# Altium integrated library ISSI SRAM Asynchronous SRAM Lower Power.IntLib: 204 symbols (part 1 of 9)
Pins are listed as number, name and electrical type; pins without a type are passive.

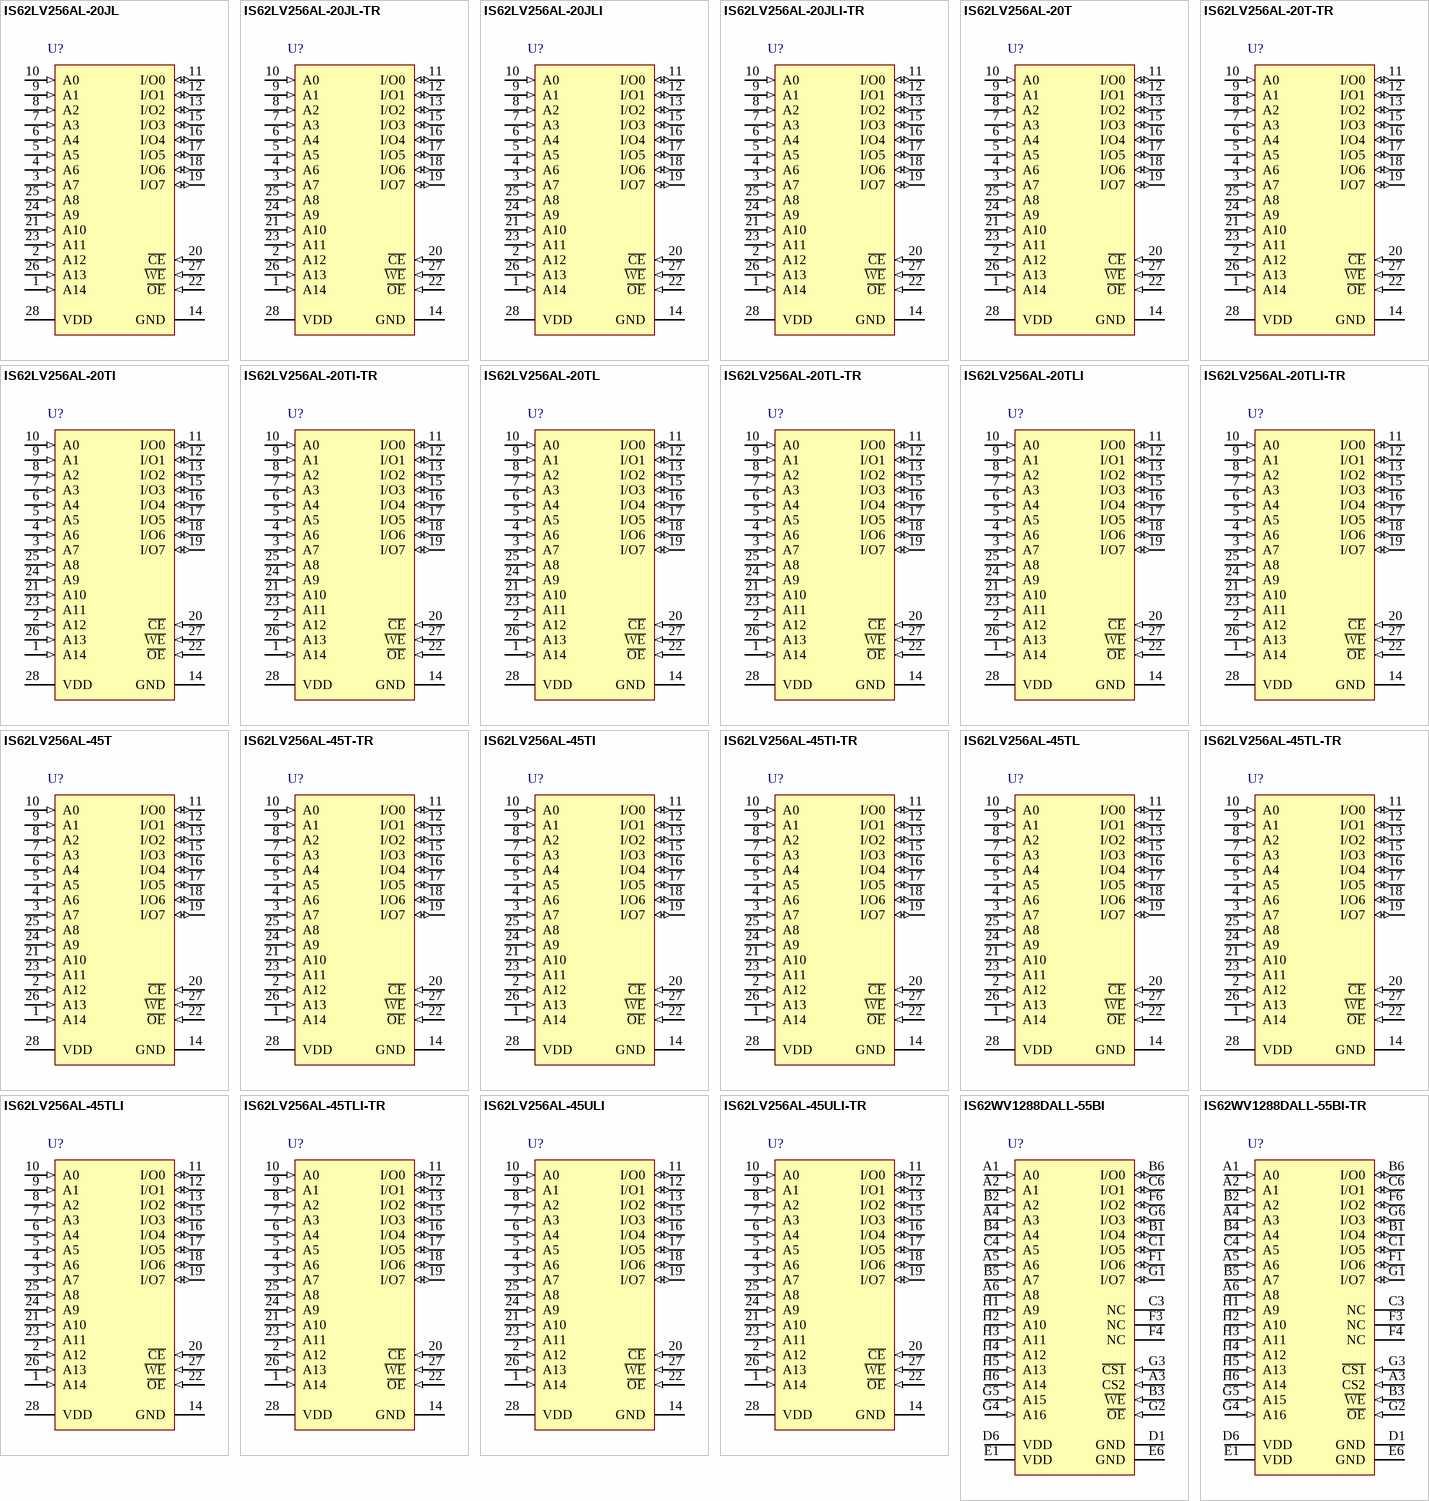
[diagram p0: symbols IS62LV256AL-20JL to IS62WV1288DALL-55BI-TR]

## IS62LV256AL-20JL
designator U?
256 K Low Voltage CMOS SRAM, 32 K x 8, 0 to 70 degC, 28-Pin SOJ (SOJ-28_A), Pb-Free; Manufacturer: Integrated Silicon Solution Inc (ISSI); PartNumber: IS62LV256AL-20JL; Density: 256K; Organization: 32K x 8; Packing: Tray / Tube; Speed (ns): 20; DatasheetVersion: Rev. C; PackageVersion: Rev. C, 07/2006; PackageReference: SOJ-28; PackageDescription: 28-Pin 300 mil SOJ, Body 18.12 x 7.585 mm, Pitch 1.27 mm; RoHS: Pb-Free; Mounting Technology: Surface Mount; ComponentLink1Description: Manufacturer URL; ComponentLink1URL: http://www.issi.com/US/index.shtml; ComponentLink2Description: Datasheet; ComponentLink2URL: http://www.issi.com/WW/pdf/62-65LV256AL.pdf; ComponentLink3Description: Package Specification; ComponentLink3URL: http://www.issi.com/WW/pdf/61C256AL.pdf
footprint ISSI-SOJ-28_A_N (SOJ, 28-Leads, Body 18.54x7.75mm, Pitch 1.27mm, IPC Medium Density)
pins: 1 A14 (in) "Address Input", 2 A12 (in) "Address Input", 3 A7 (in) "Address Input", 4 A6 (in) "Address Input", 5 A5 (in) "Address Input", 6 A4 (in) "Address Input", 7 A3 (in) "Address Input", 8 A2 (in) "Address Input", 9 A1 (in) "Address Input", 10 A0 (in) "Address Input", 11 I/O0 (io) "Input/Output", 12 I/O1 (io) "Input/Output", 13 I/O2 (io) "Input/Output", 14 GND (power) "Ground", 15 I/O3 (io) "Input/Output", 16 I/O4 (io) "Input/Output", 17 I/O5 (io) "Input/Output", 18 I/O6 (io) "Input/Output", 19 I/O7 (io) "Input/Output", 20 ~{CE} (in) "Chip Enable Input", 21 A10 (in) "Address Input", 22 ~{OE} (in) "Output Enable Input", 23 A11 (in) "Address Input", 24 A9 (in) "Address Input", 25 A8 (in) "Address Input", 26 A13 (in) "Address Input", 27 ~{WE} (in) "Write Enable Input", 28 VDD (power) "Power"

## IS62LV256AL-20JL-TR
designator U?
256 K Low Voltage CMOS SRAM, 32 K x 8, 0 to 70 degC, 28-Pin SOJ (SOJ-28_A), Pb-Free; Manufacturer: Integrated Silicon Solution Inc (ISSI); PartNumber: IS62LV256AL-20JL-TR; Density: 256K; Organization: 32K x 8; Packing: Tape & Reel; Speed (ns): 20; DatasheetVersion: Rev. C; PackageVersion: Rev. C, 07/2006; PackageReference: SOJ-28; PackageDescription: 28-Pin 300 mil SOJ, Body 18.12 x 7.585 mm, Pitch 1.27 mm; RoHS: Pb-Free; Mounting Technology: Surface Mount; ComponentLink1Description: Manufacturer URL; ComponentLink1URL: http://www.issi.com/US/index.shtml; ComponentLink2Description: Datasheet; ComponentLink2URL: http://www.issi.com/WW/pdf/62-65LV256AL.pdf; ComponentLink3Description: Package Specification; ComponentLink3URL: http://www.issi.com/WW/pdf/61C256AL.pdf
footprint ISSI-SOJ-28_A_N (SOJ, 28-Leads, Body 18.54x7.75mm, Pitch 1.27mm, IPC Medium Density)
pins: 1 A14 (in) "Address Input", 2 A12 (in) "Address Input", 3 A7 (in) "Address Input", 4 A6 (in) "Address Input", 5 A5 (in) "Address Input", 6 A4 (in) "Address Input", 7 A3 (in) "Address Input", 8 A2 (in) "Address Input", 9 A1 (in) "Address Input", 10 A0 (in) "Address Input", 11 I/O0 (io) "Input/Output", 12 I/O1 (io) "Input/Output", 13 I/O2 (io) "Input/Output", 14 GND (power) "Ground", 15 I/O3 (io) "Input/Output", 16 I/O4 (io) "Input/Output", 17 I/O5 (io) "Input/Output", 18 I/O6 (io) "Input/Output", 19 I/O7 (io) "Input/Output", 20 ~{CE} (in) "Chip Enable Input", 21 A10 (in) "Address Input", 22 ~{OE} (in) "Output Enable Input", 23 A11 (in) "Address Input", 24 A9 (in) "Address Input", 25 A8 (in) "Address Input", 26 A13 (in) "Address Input", 27 ~{WE} (in) "Write Enable Input", 28 VDD (power) "Power"

## IS62LV256AL-20JLI
designator U?
256 K Low Voltage CMOS SRAM, 32 K x 8, -40 to 85 degC, 28-Pin SOJ (SOJ-28_A), Pb-Free; Manufacturer: Integrated Silicon Solution Inc (ISSI); PartNumber: IS62LV256AL-20JLI; Density: 256K; Organization: 32K x 8; Packing: Tray / Tube; Speed (ns): 20; DatasheetVersion: Rev. C; PackageVersion: Rev. C, 07/2006; PackageReference: SOJ-28; PackageDescription: 28-Pin 300 mil SOJ, Body 18.12 x 7.585 mm, Pitch 1.27 mm; Supplier 1: Digi-Key; Supplier Part Number 1: IS62LV256AL-20JLI-ND; Supplier 2: Mouser; Supplier Part Number 2: 870-62LV256AL-20JLI; RoHS: Pb-Free; Mounting Technology: Surface Mount; ComponentLink1Description: Manufacturer URL; ComponentLink1URL: http://www.issi.com/US/index.shtml; ComponentLink2Description: Datasheet; ComponentLink2URL: http://www.issi.com/WW/pdf/62-65LV256AL.pdf; ComponentLink3Description: Package Specification; ComponentLink3URL: http://www.issi.com/WW/pdf/61C256AL.pdf
footprint ISSI-SOJ-28_A_N (SOJ, 28-Leads, Body 18.54x7.75mm, Pitch 1.27mm, IPC Medium Density)
pins: 1 A14 (in) "Address Input", 2 A12 (in) "Address Input", 3 A7 (in) "Address Input", 4 A6 (in) "Address Input", 5 A5 (in) "Address Input", 6 A4 (in) "Address Input", 7 A3 (in) "Address Input", 8 A2 (in) "Address Input", 9 A1 (in) "Address Input", 10 A0 (in) "Address Input", 11 I/O0 (io) "Input/Output", 12 I/O1 (io) "Input/Output", 13 I/O2 (io) "Input/Output", 14 GND (power) "Ground", 15 I/O3 (io) "Input/Output", 16 I/O4 (io) "Input/Output", 17 I/O5 (io) "Input/Output", 18 I/O6 (io) "Input/Output", 19 I/O7 (io) "Input/Output", 20 ~{CE} (in) "Chip Enable Input", 21 A10 (in) "Address Input", 22 ~{OE} (in) "Output Enable Input", 23 A11 (in) "Address Input", 24 A9 (in) "Address Input", 25 A8 (in) "Address Input", 26 A13 (in) "Address Input", 27 ~{WE} (in) "Write Enable Input", 28 VDD (power) "Power"

## IS62LV256AL-20JLI-TR
designator U?
256 K Low Voltage CMOS SRAM, 32 K x 8, -40 to 85 degC, 28-Pin SOJ (SOJ-28_A), Pb-Free; Manufacturer: Integrated Silicon Solution Inc (ISSI); PartNumber: IS62LV256AL-20JLI-TR; Density: 256K; Organization: 32K x 8; Packing: Tape & Reel; Speed (ns): 20; DatasheetVersion: Rev. C; PackageVersion: Rev. C, 07/2006; PackageReference: SOJ-28; PackageDescription: 28-Pin 300 mil SOJ, Body 18.12 x 7.585 mm, Pitch 1.27 mm; Supplier 1: Digi-Key; Supplier Part Number 1: IS62LV256AL-20JLI-TR-ND; Supplier 2: Mouser; Supplier Part Number 2: 870-62LV256AL-20JLIT; RoHS: Pb-Free; Mounting Technology: Surface Mount; ComponentLink1Description: Manufacturer URL; ComponentLink1URL: http://www.issi.com/US/index.shtml; ComponentLink2Description: Datasheet; ComponentLink2URL: http://www.issi.com/WW/pdf/62-65LV256AL.pdf; ComponentLink3Description: Package Specification; ComponentLink3URL: http://www.issi.com/WW/pdf/61C256AL.pdf
footprint ISSI-SOJ-28_A_N (SOJ, 28-Leads, Body 18.54x7.75mm, Pitch 1.27mm, IPC Medium Density)
pins: 1 A14 (in) "Address Input", 2 A12 (in) "Address Input", 3 A7 (in) "Address Input", 4 A6 (in) "Address Input", 5 A5 (in) "Address Input", 6 A4 (in) "Address Input", 7 A3 (in) "Address Input", 8 A2 (in) "Address Input", 9 A1 (in) "Address Input", 10 A0 (in) "Address Input", 11 I/O0 (io) "Input/Output", 12 I/O1 (io) "Input/Output", 13 I/O2 (io) "Input/Output", 14 GND (power) "Ground", 15 I/O3 (io) "Input/Output", 16 I/O4 (io) "Input/Output", 17 I/O5 (io) "Input/Output", 18 I/O6 (io) "Input/Output", 19 I/O7 (io) "Input/Output", 20 ~{CE} (in) "Chip Enable Input", 21 A10 (in) "Address Input", 22 ~{OE} (in) "Output Enable Input", 23 A11 (in) "Address Input", 24 A9 (in) "Address Input", 25 A8 (in) "Address Input", 26 A13 (in) "Address Input", 27 ~{WE} (in) "Write Enable Input", 28 VDD (power) "Power"

## IS62LV256AL-20T
designator U?
256 K Low Voltage CMOS SRAM, 32 K x 8, 0 to 70 degC, 28-Pin SOP (TSOP-1-28); Manufacturer: Integrated Silicon Solution Inc (ISSI); PartNumber: IS62LV256AL-20T; Density: 256K; Organization: 32K x 8; Packing: Tray / Tube; Speed (ns): 20; DatasheetVersion: Rev. C; PackageVersion: Rev. F, 09/2009; PackageReference: TSOP-1-28; PackageDescription: 28-Pin 8 x 13.4 mm TSOP-1, Pitch 0.55 mm; Mounting Technology: Surface Mount; Code_JEDEC: MO- 183; ComponentLink1Description: Manufacturer URL; ComponentLink1URL: http://www.issi.com/US/index.shtml; ComponentLink2Description: Datasheet; ComponentLink2URL: http://www.issi.com/WW/pdf/62-65LV256AL.pdf; ComponentLink3Description: Package Specification; ComponentLink3URL: http://www.issi.com/WW/pdf/62-65C256AL.pdf
footprint ISSI-TSOP-1-28-8000X13400DE_N (SOP, 28-Leads, Body 11.9x8.1mm, Pitch 0.55mm, IPC Medium Density)
pins: 1 A14 (in) "Address Input", 2 A12 (in) "Address Input", 3 A7 (in) "Address Input", 4 A6 (in) "Address Input", 5 A5 (in) "Address Input", 6 A4 (in) "Address Input", 7 A3 (in) "Address Input", 8 A2 (in) "Address Input", 9 A1 (in) "Address Input", 10 A0 (in) "Address Input", 11 I/O0 (io) "Input/Output", 12 I/O1 (io) "Input/Output", 13 I/O2 (io) "Input/Output", 14 GND (power) "Ground", 15 I/O3 (io) "Input/Output", 16 I/O4 (io) "Input/Output", 17 I/O5 (io) "Input/Output", 18 I/O6 (io) "Input/Output", 19 I/O7 (io) "Input/Output", 20 ~{CE} (in) "Chip Select Input", 21 A10 (in) "Address Input", 22 ~{OE} (in) "Output Enable Input", 23 A11 (in) "Address Input", 24 A9 (in) "Address Input", 25 A8 (in) "Address Input", 26 A13 (in) "Address Input", 27 ~{WE} (in) "Write Enable Input", 28 VDD (power) "Power"

## IS62LV256AL-20T-TR
designator U?
256 K Low Voltage CMOS SRAM, 32 K x 8, 0 to 70 degC, 28-Pin SOP (TSOP-1-28); Manufacturer: Integrated Silicon Solution Inc (ISSI); PartNumber: IS62LV256AL-20T-TR; Density: 256K; Organization: 32K x 8; Packing: Tape & Reel; Speed (ns): 20; DatasheetVersion: Rev. C; PackageVersion: Rev. F, 09/2009; PackageReference: TSOP-1-28; PackageDescription: 28-Pin 8 x 13.4 mm TSOP-1, Pitch 0.55 mm; Mounting Technology: Surface Mount; Code_JEDEC: MO- 183; ComponentLink1Description: Manufacturer URL; ComponentLink1URL: http://www.issi.com/US/index.shtml; ComponentLink2Description: Datasheet; ComponentLink2URL: http://www.issi.com/WW/pdf/62-65LV256AL.pdf; ComponentLink3Description: Package Specification; ComponentLink3URL: http://www.issi.com/WW/pdf/62-65C256AL.pdf
footprint ISSI-TSOP-1-28-8000X13400DE_N (SOP, 28-Leads, Body 11.9x8.1mm, Pitch 0.55mm, IPC Medium Density)
pins: 1 A14 (in) "Address Input", 2 A12 (in) "Address Input", 3 A7 (in) "Address Input", 4 A6 (in) "Address Input", 5 A5 (in) "Address Input", 6 A4 (in) "Address Input", 7 A3 (in) "Address Input", 8 A2 (in) "Address Input", 9 A1 (in) "Address Input", 10 A0 (in) "Address Input", 11 I/O0 (io) "Input/Output", 12 I/O1 (io) "Input/Output", 13 I/O2 (io) "Input/Output", 14 GND (power) "Ground", 15 I/O3 (io) "Input/Output", 16 I/O4 (io) "Input/Output", 17 I/O5 (io) "Input/Output", 18 I/O6 (io) "Input/Output", 19 I/O7 (io) "Input/Output", 20 ~{CE} (in) "Chip Select Input", 21 A10 (in) "Address Input", 22 ~{OE} (in) "Output Enable Input", 23 A11 (in) "Address Input", 24 A9 (in) "Address Input", 25 A8 (in) "Address Input", 26 A13 (in) "Address Input", 27 ~{WE} (in) "Write Enable Input", 28 VDD (power) "Power"

## IS62LV256AL-20TI
designator U?
256 K Low Voltage CMOS SRAM, 32 K x 8, -40 to 85 degC, 28-Pin SOP (TSOP-1-28); Manufacturer: Integrated Silicon Solution Inc (ISSI); PartNumber: IS62LV256AL-20TI; Density: 256K; Organization: 32K x 8; Packing: Tray / Tube; Speed (ns): 20; DatasheetVersion: Rev. C; PackageVersion: Rev. F, 09/2009; PackageReference: TSOP-1-28; PackageDescription: 28-Pin 8 x 13.4 mm TSOP-1, Pitch 0.55 mm; Mounting Technology: Surface Mount; Code_JEDEC: MO- 183; ComponentLink1Description: Manufacturer URL; ComponentLink1URL: http://www.issi.com/US/index.shtml; ComponentLink2Description: Datasheet; ComponentLink2URL: http://www.issi.com/WW/pdf/62-65LV256AL.pdf; ComponentLink3Description: Package Specification; ComponentLink3URL: http://www.issi.com/WW/pdf/62-65C256AL.pdf
footprint ISSI-TSOP-1-28-8000X13400DE_N (SOP, 28-Leads, Body 11.9x8.1mm, Pitch 0.55mm, IPC Medium Density)
pins: 1 A14 (in) "Address Input", 2 A12 (in) "Address Input", 3 A7 (in) "Address Input", 4 A6 (in) "Address Input", 5 A5 (in) "Address Input", 6 A4 (in) "Address Input", 7 A3 (in) "Address Input", 8 A2 (in) "Address Input", 9 A1 (in) "Address Input", 10 A0 (in) "Address Input", 11 I/O0 (io) "Input/Output", 12 I/O1 (io) "Input/Output", 13 I/O2 (io) "Input/Output", 14 GND (power) "Ground", 15 I/O3 (io) "Input/Output", 16 I/O4 (io) "Input/Output", 17 I/O5 (io) "Input/Output", 18 I/O6 (io) "Input/Output", 19 I/O7 (io) "Input/Output", 20 ~{CE} (in) "Chip Select Input", 21 A10 (in) "Address Input", 22 ~{OE} (in) "Output Enable Input", 23 A11 (in) "Address Input", 24 A9 (in) "Address Input", 25 A8 (in) "Address Input", 26 A13 (in) "Address Input", 27 ~{WE} (in) "Write Enable Input", 28 VDD (power) "Power"

## IS62LV256AL-20TI-TR
designator U?
256 K Low Voltage CMOS SRAM, 32 K x 8, -40 to 85 degC, 28-Pin SOP (TSOP-1-28); Manufacturer: Integrated Silicon Solution Inc (ISSI); PartNumber: IS62LV256AL-20TI-TR; Density: 256K; Organization: 32K x 8; Packing: Tape & Reel; Speed (ns): 20; DatasheetVersion: Rev. C; PackageVersion: Rev. F, 09/2009; PackageReference: TSOP-1-28; PackageDescription: 28-Pin 8 x 13.4 mm TSOP-1, Pitch 0.55 mm; Mounting Technology: Surface Mount; Code_JEDEC: MO- 183; ComponentLink1Description: Manufacturer URL; ComponentLink1URL: http://www.issi.com/US/index.shtml; ComponentLink2Description: Datasheet; ComponentLink2URL: http://www.issi.com/WW/pdf/62-65LV256AL.pdf; ComponentLink3Description: Package Specification; ComponentLink3URL: http://www.issi.com/WW/pdf/62-65C256AL.pdf
footprint ISSI-TSOP-1-28-8000X13400DE_N (SOP, 28-Leads, Body 11.9x8.1mm, Pitch 0.55mm, IPC Medium Density)
pins: 1 A14 (in) "Address Input", 2 A12 (in) "Address Input", 3 A7 (in) "Address Input", 4 A6 (in) "Address Input", 5 A5 (in) "Address Input", 6 A4 (in) "Address Input", 7 A3 (in) "Address Input", 8 A2 (in) "Address Input", 9 A1 (in) "Address Input", 10 A0 (in) "Address Input", 11 I/O0 (io) "Input/Output", 12 I/O1 (io) "Input/Output", 13 I/O2 (io) "Input/Output", 14 GND (power) "Ground", 15 I/O3 (io) "Input/Output", 16 I/O4 (io) "Input/Output", 17 I/O5 (io) "Input/Output", 18 I/O6 (io) "Input/Output", 19 I/O7 (io) "Input/Output", 20 ~{CE} (in) "Chip Select Input", 21 A10 (in) "Address Input", 22 ~{OE} (in) "Output Enable Input", 23 A11 (in) "Address Input", 24 A9 (in) "Address Input", 25 A8 (in) "Address Input", 26 A13 (in) "Address Input", 27 ~{WE} (in) "Write Enable Input", 28 VDD (power) "Power"

## IS62LV256AL-20TL
designator U?
256 K Low Voltage CMOS SRAM, 32 K x 8, 0 to 70 degC, 28-Pin SOP (TSOP-1-28), Pb-Free; Manufacturer: Integrated Silicon Solution Inc (ISSI); PartNumber: IS62LV256AL-20TL; Density: 256K; Organization: 32K x 8; Packing: Tray / Tube; Speed (ns): 20; DatasheetVersion: Rev. C; PackageVersion: Rev. F, 09/2009; PackageReference: TSOP-1-28; PackageDescription: 28-Pin 8 x 13.4 mm TSOP-1, Pitch 0.55 mm; RoHS: Pb-Free; Mounting Technology: Surface Mount; Code_JEDEC: MO- 183; ComponentLink1Description: Manufacturer URL; ComponentLink1URL: http://www.issi.com/US/index.shtml; ComponentLink2Description: Datasheet; ComponentLink2URL: http://www.issi.com/WW/pdf/62-65LV256AL.pdf; ComponentLink3Description: Package Specification; ComponentLink3URL: http://www.issi.com/WW/pdf/62-65C256AL.pdf
footprint ISSI-TSOP-1-28-8000X13400DE_N (SOP, 28-Leads, Body 11.9x8.1mm, Pitch 0.55mm, IPC Medium Density)
pins: 1 A14 (in) "Address Input", 2 A12 (in) "Address Input", 3 A7 (in) "Address Input", 4 A6 (in) "Address Input", 5 A5 (in) "Address Input", 6 A4 (in) "Address Input", 7 A3 (in) "Address Input", 8 A2 (in) "Address Input", 9 A1 (in) "Address Input", 10 A0 (in) "Address Input", 11 I/O0 (io) "Input/Output", 12 I/O1 (io) "Input/Output", 13 I/O2 (io) "Input/Output", 14 GND (power) "Ground", 15 I/O3 (io) "Input/Output", 16 I/O4 (io) "Input/Output", 17 I/O5 (io) "Input/Output", 18 I/O6 (io) "Input/Output", 19 I/O7 (io) "Input/Output", 20 ~{CE} (in) "Chip Select Input", 21 A10 (in) "Address Input", 22 ~{OE} (in) "Output Enable Input", 23 A11 (in) "Address Input", 24 A9 (in) "Address Input", 25 A8 (in) "Address Input", 26 A13 (in) "Address Input", 27 ~{WE} (in) "Write Enable Input", 28 VDD (power) "Power"

## IS62LV256AL-20TL-TR
designator U?
256 K Low Voltage CMOS SRAM, 32 K x 8, 0 to 70 degC, 28-Pin SOP (TSOP-1-28), Pb-Free; Manufacturer: Integrated Silicon Solution Inc (ISSI); PartNumber: IS62LV256AL-20TL-TR; Density: 256K; Organization: 32K x 8; Packing: Tape & Reel; Speed (ns): 20; DatasheetVersion: Rev. C; PackageVersion: Rev. F, 09/2009; PackageReference: TSOP-1-28; PackageDescription: 28-Pin 8 x 13.4 mm TSOP-1, Pitch 0.55 mm; RoHS: Pb-Free; Mounting Technology: Surface Mount; Code_JEDEC: MO- 183; ComponentLink1Description: Manufacturer URL; ComponentLink1URL: http://www.issi.com/US/index.shtml; ComponentLink2Description: Datasheet; ComponentLink2URL: http://www.issi.com/WW/pdf/62-65LV256AL.pdf; ComponentLink3Description: Package Specification; ComponentLink3URL: http://www.issi.com/WW/pdf/62-65C256AL.pdf
footprint ISSI-TSOP-1-28-8000X13400DE_N (SOP, 28-Leads, Body 11.9x8.1mm, Pitch 0.55mm, IPC Medium Density)
pins: 1 A14 (in) "Address Input", 2 A12 (in) "Address Input", 3 A7 (in) "Address Input", 4 A6 (in) "Address Input", 5 A5 (in) "Address Input", 6 A4 (in) "Address Input", 7 A3 (in) "Address Input", 8 A2 (in) "Address Input", 9 A1 (in) "Address Input", 10 A0 (in) "Address Input", 11 I/O0 (io) "Input/Output", 12 I/O1 (io) "Input/Output", 13 I/O2 (io) "Input/Output", 14 GND (power) "Ground", 15 I/O3 (io) "Input/Output", 16 I/O4 (io) "Input/Output", 17 I/O5 (io) "Input/Output", 18 I/O6 (io) "Input/Output", 19 I/O7 (io) "Input/Output", 20 ~{CE} (in) "Chip Select Input", 21 A10 (in) "Address Input", 22 ~{OE} (in) "Output Enable Input", 23 A11 (in) "Address Input", 24 A9 (in) "Address Input", 25 A8 (in) "Address Input", 26 A13 (in) "Address Input", 27 ~{WE} (in) "Write Enable Input", 28 VDD (power) "Power"

## IS62LV256AL-20TLI
designator U?
256 K Low Voltage CMOS SRAM, 32 K x 8, -40 to 85 degC, 28-Pin SOP (TSOP-1-28), Pb-Free; Manufacturer: Integrated Silicon Solution Inc (ISSI); PartNumber: IS62LV256AL-20TLI; Density: 256K; Organization: 32K x 8; Packing: Tray / Tube; Speed (ns): 20; DatasheetVersion: Rev. C; PackageVersion: Rev. F, 09/2009; PackageReference: TSOP-1-28; PackageDescription: 28-Pin 8 x 13.4 mm TSOP-1, Pitch 0.55 mm; Supplier 1: Digi-Key; Supplier Part Number 1: IS62LV256AL-20TLI-ND; Supplier 2: Mouser; Supplier Part Number 2: 870-62LV256AL-20TLI; RoHS: Pb-Free; Mounting Technology: Surface Mount; Code_JEDEC: MO- 183; ComponentLink1Description: Manufacturer URL; ComponentLink1URL: http://www.issi.com/US/index.shtml; ComponentLink2Description: Datasheet; ComponentLink2URL: http://www.issi.com/WW/pdf/62-65LV256AL.pdf; ComponentLink3Description: Package Specification; ComponentLink3URL: http://www.issi.com/WW/pdf/62-65C256AL.pdf
footprint ISSI-TSOP-1-28-8000X13400DE_N (SOP, 28-Leads, Body 11.9x8.1mm, Pitch 0.55mm, IPC Medium Density)
pins: 1 A14 (in) "Address Input", 2 A12 (in) "Address Input", 3 A7 (in) "Address Input", 4 A6 (in) "Address Input", 5 A5 (in) "Address Input", 6 A4 (in) "Address Input", 7 A3 (in) "Address Input", 8 A2 (in) "Address Input", 9 A1 (in) "Address Input", 10 A0 (in) "Address Input", 11 I/O0 (io) "Input/Output", 12 I/O1 (io) "Input/Output", 13 I/O2 (io) "Input/Output", 14 GND (power) "Ground", 15 I/O3 (io) "Input/Output", 16 I/O4 (io) "Input/Output", 17 I/O5 (io) "Input/Output", 18 I/O6 (io) "Input/Output", 19 I/O7 (io) "Input/Output", 20 ~{CE} (in) "Chip Select Input", 21 A10 (in) "Address Input", 22 ~{OE} (in) "Output Enable Input", 23 A11 (in) "Address Input", 24 A9 (in) "Address Input", 25 A8 (in) "Address Input", 26 A13 (in) "Address Input", 27 ~{WE} (in) "Write Enable Input", 28 VDD (power) "Power"

## IS62LV256AL-20TLI-TR
designator U?
256 K Low Voltage CMOS SRAM, 32 K x 8, -40 to 85 degC, 28-Pin SOP (TSOP-1-28), Pb-Free; Manufacturer: Integrated Silicon Solution Inc (ISSI); PartNumber: IS62LV256AL-20TLI-TR; Density: 256K; Organization: 32K x 8; Packing: Tape & Reel; Speed (ns): 20; DatasheetVersion: Rev. C; PackageVersion: Rev. F, 09/2009; PackageReference: TSOP-1-28; PackageDescription: 28-Pin 8 x 13.4 mm TSOP-1, Pitch 0.55 mm; Supplier 1: Digi-Key; Supplier Part Number 1: IS62LV256AL-20TLI-TR-ND; Supplier 2: Mouser; Supplier Part Number 2: 870-62LV256AL-20TLIT; RoHS: Pb-Free; Mounting Technology: Surface Mount; Code_JEDEC: MO- 183; ComponentLink1Description: Manufacturer URL; ComponentLink1URL: http://www.issi.com/US/index.shtml; ComponentLink2Description: Datasheet; ComponentLink2URL: http://www.issi.com/WW/pdf/62-65LV256AL.pdf; ComponentLink3Description: Package Specification; ComponentLink3URL: http://www.issi.com/WW/pdf/62-65C256AL.pdf
footprint ISSI-TSOP-1-28-8000X13400DE_N (SOP, 28-Leads, Body 11.9x8.1mm, Pitch 0.55mm, IPC Medium Density)
pins: 1 A14 (in) "Address Input", 2 A12 (in) "Address Input", 3 A7 (in) "Address Input", 4 A6 (in) "Address Input", 5 A5 (in) "Address Input", 6 A4 (in) "Address Input", 7 A3 (in) "Address Input", 8 A2 (in) "Address Input", 9 A1 (in) "Address Input", 10 A0 (in) "Address Input", 11 I/O0 (io) "Input/Output", 12 I/O1 (io) "Input/Output", 13 I/O2 (io) "Input/Output", 14 GND (power) "Ground", 15 I/O3 (io) "Input/Output", 16 I/O4 (io) "Input/Output", 17 I/O5 (io) "Input/Output", 18 I/O6 (io) "Input/Output", 19 I/O7 (io) "Input/Output", 20 ~{CE} (in) "Chip Select Input", 21 A10 (in) "Address Input", 22 ~{OE} (in) "Output Enable Input", 23 A11 (in) "Address Input", 24 A9 (in) "Address Input", 25 A8 (in) "Address Input", 26 A13 (in) "Address Input", 27 ~{WE} (in) "Write Enable Input", 28 VDD (power) "Power"

## IS62LV256AL-45T
designator U?
256 K Low Voltage CMOS SRAM, 32 K x 8, 0 to 70 degC, 28-Pin SOP (TSOP-1-28); Manufacturer: Integrated Silicon Solution Inc (ISSI); PartNumber: IS62LV256AL-45T; Density: 256K; Organization: 32K x 8; Packing: Tray / Tube; Speed (ns): 45; DatasheetVersion: Rev. C; PackageVersion: Rev. F, 09/2009; PackageReference: TSOP-1-28; PackageDescription: 28-Pin 8 x 13.4 mm TSOP-1, Pitch 0.55 mm; Mounting Technology: Surface Mount; Code_JEDEC: MO- 183; ComponentLink1Description: Manufacturer URL; ComponentLink1URL: http://www.issi.com/US/index.shtml; ComponentLink2Description: Datasheet; ComponentLink2URL: http://www.issi.com/WW/pdf/62-65LV256AL.pdf; ComponentLink3Description: Package Specification; ComponentLink3URL: http://www.issi.com/WW/pdf/62-65C256AL.pdf
footprint ISSI-TSOP-1-28-8000X13400DE_N (SOP, 28-Leads, Body 11.9x8.1mm, Pitch 0.55mm, IPC Medium Density)
pins: 1 A14 (in) "Address Input", 2 A12 (in) "Address Input", 3 A7 (in) "Address Input", 4 A6 (in) "Address Input", 5 A5 (in) "Address Input", 6 A4 (in) "Address Input", 7 A3 (in) "Address Input", 8 A2 (in) "Address Input", 9 A1 (in) "Address Input", 10 A0 (in) "Address Input", 11 I/O0 (io) "Input/Output", 12 I/O1 (io) "Input/Output", 13 I/O2 (io) "Input/Output", 14 GND (power) "Ground", 15 I/O3 (io) "Input/Output", 16 I/O4 (io) "Input/Output", 17 I/O5 (io) "Input/Output", 18 I/O6 (io) "Input/Output", 19 I/O7 (io) "Input/Output", 20 ~{CE} (in) "Chip Select Input", 21 A10 (in) "Address Input", 22 ~{OE} (in) "Output Enable Input", 23 A11 (in) "Address Input", 24 A9 (in) "Address Input", 25 A8 (in) "Address Input", 26 A13 (in) "Address Input", 27 ~{WE} (in) "Write Enable Input", 28 VDD (power) "Power"

## IS62LV256AL-45T-TR
designator U?
256 K Low Voltage CMOS SRAM, 32 K x 8, 0 to 70 degC, 28-Pin SOP (TSOP-1-28); Manufacturer: Integrated Silicon Solution Inc (ISSI); PartNumber: IS62LV256AL-45T-TR; Density: 256K; Organization: 32K x 8; Packing: Tape & Reel; Speed (ns): 45; DatasheetVersion: Rev. C; PackageVersion: Rev. F, 09/2009; PackageReference: TSOP-1-28; PackageDescription: 28-Pin 8 x 13.4 mm TSOP-1, Pitch 0.55 mm; Mounting Technology: Surface Mount; Code_JEDEC: MO- 183; ComponentLink1Description: Manufacturer URL; ComponentLink1URL: http://www.issi.com/US/index.shtml; ComponentLink2Description: Datasheet; ComponentLink2URL: http://www.issi.com/WW/pdf/62-65LV256AL.pdf; ComponentLink3Description: Package Specification; ComponentLink3URL: http://www.issi.com/WW/pdf/62-65C256AL.pdf
footprint ISSI-TSOP-1-28-8000X13400DE_N (SOP, 28-Leads, Body 11.9x8.1mm, Pitch 0.55mm, IPC Medium Density)
pins: 1 A14 (in) "Address Input", 2 A12 (in) "Address Input", 3 A7 (in) "Address Input", 4 A6 (in) "Address Input", 5 A5 (in) "Address Input", 6 A4 (in) "Address Input", 7 A3 (in) "Address Input", 8 A2 (in) "Address Input", 9 A1 (in) "Address Input", 10 A0 (in) "Address Input", 11 I/O0 (io) "Input/Output", 12 I/O1 (io) "Input/Output", 13 I/O2 (io) "Input/Output", 14 GND (power) "Ground", 15 I/O3 (io) "Input/Output", 16 I/O4 (io) "Input/Output", 17 I/O5 (io) "Input/Output", 18 I/O6 (io) "Input/Output", 19 I/O7 (io) "Input/Output", 20 ~{CE} (in) "Chip Select Input", 21 A10 (in) "Address Input", 22 ~{OE} (in) "Output Enable Input", 23 A11 (in) "Address Input", 24 A9 (in) "Address Input", 25 A8 (in) "Address Input", 26 A13 (in) "Address Input", 27 ~{WE} (in) "Write Enable Input", 28 VDD (power) "Power"

## IS62LV256AL-45TI
designator U?
256 K Low Voltage CMOS SRAM, 32 K x 8, -40 to 85 degC, 28-Pin SOP (TSOP-1-28); Manufacturer: Integrated Silicon Solution Inc (ISSI); PartNumber: IS62LV256AL-45TI; Density: 256K; Organization: 32K x 8; Packing: Tray / Tube; Speed (ns): 45; DatasheetVersion: Rev. C; PackageVersion: Rev. F, 09/2009; PackageReference: TSOP-1-28; PackageDescription: 28-Pin 8 x 13.4 mm TSOP-1, Pitch 0.55 mm; Supplier 1: Mouser; Supplier Part Number 1: N/A; Mounting Technology: Surface Mount; Code_JEDEC: MO- 183; ComponentLink1Description: Manufacturer URL; ComponentLink1URL: http://www.issi.com/US/index.shtml; ComponentLink2Description: Datasheet; ComponentLink2URL: http://www.issi.com/WW/pdf/62-65LV256AL.pdf; ComponentLink3Description: Package Specification; ComponentLink3URL: http://www.issi.com/WW/pdf/62-65C256AL.pdf
footprint ISSI-TSOP-1-28-8000X13400DE_N (SOP, 28-Leads, Body 11.9x8.1mm, Pitch 0.55mm, IPC Medium Density)
pins: 1 A14 (in) "Address Input", 2 A12 (in) "Address Input", 3 A7 (in) "Address Input", 4 A6 (in) "Address Input", 5 A5 (in) "Address Input", 6 A4 (in) "Address Input", 7 A3 (in) "Address Input", 8 A2 (in) "Address Input", 9 A1 (in) "Address Input", 10 A0 (in) "Address Input", 11 I/O0 (io) "Input/Output", 12 I/O1 (io) "Input/Output", 13 I/O2 (io) "Input/Output", 14 GND (power) "Ground", 15 I/O3 (io) "Input/Output", 16 I/O4 (io) "Input/Output", 17 I/O5 (io) "Input/Output", 18 I/O6 (io) "Input/Output", 19 I/O7 (io) "Input/Output", 20 ~{CE} (in) "Chip Select Input", 21 A10 (in) "Address Input", 22 ~{OE} (in) "Output Enable Input", 23 A11 (in) "Address Input", 24 A9 (in) "Address Input", 25 A8 (in) "Address Input", 26 A13 (in) "Address Input", 27 ~{WE} (in) "Write Enable Input", 28 VDD (power) "Power"

## IS62LV256AL-45TI-TR
designator U?
256 K Low Voltage CMOS SRAM, 32 K x 8, -40 to 85 degC, 28-Pin SOP (TSOP-1-28); Manufacturer: Integrated Silicon Solution Inc (ISSI); PartNumber: IS62LV256AL-45TI-TR; Density: 256K; Organization: 32K x 8; Packing: Tape & Reel; Speed (ns): 45; DatasheetVersion: Rev. C; PackageVersion: Rev. F, 09/2009; PackageReference: TSOP-1-28; PackageDescription: 28-Pin 8 x 13.4 mm TSOP-1, Pitch 0.55 mm; Supplier 1: Mouser; Supplier Part Number 1: N/A; Mounting Technology: Surface Mount; Code_JEDEC: MO- 183; ComponentLink1Description: Manufacturer URL; ComponentLink1URL: http://www.issi.com/US/index.shtml; ComponentLink2Description: Datasheet; ComponentLink2URL: http://www.issi.com/WW/pdf/62-65LV256AL.pdf; ComponentLink3Description: Package Specification; ComponentLink3URL: http://www.issi.com/WW/pdf/62-65C256AL.pdf
footprint ISSI-TSOP-1-28-8000X13400DE_N (SOP, 28-Leads, Body 11.9x8.1mm, Pitch 0.55mm, IPC Medium Density)
pins: 1 A14 (in) "Address Input", 2 A12 (in) "Address Input", 3 A7 (in) "Address Input", 4 A6 (in) "Address Input", 5 A5 (in) "Address Input", 6 A4 (in) "Address Input", 7 A3 (in) "Address Input", 8 A2 (in) "Address Input", 9 A1 (in) "Address Input", 10 A0 (in) "Address Input", 11 I/O0 (io) "Input/Output", 12 I/O1 (io) "Input/Output", 13 I/O2 (io) "Input/Output", 14 GND (power) "Ground", 15 I/O3 (io) "Input/Output", 16 I/O4 (io) "Input/Output", 17 I/O5 (io) "Input/Output", 18 I/O6 (io) "Input/Output", 19 I/O7 (io) "Input/Output", 20 ~{CE} (in) "Chip Select Input", 21 A10 (in) "Address Input", 22 ~{OE} (in) "Output Enable Input", 23 A11 (in) "Address Input", 24 A9 (in) "Address Input", 25 A8 (in) "Address Input", 26 A13 (in) "Address Input", 27 ~{WE} (in) "Write Enable Input", 28 VDD (power) "Power"

## IS62LV256AL-45TL
designator U?
256 K Low Voltage CMOS SRAM, 32 K x 8, 0 to 70 degC, 28-Pin SOP (TSOP-1-28), Pb-Free; Manufacturer: Integrated Silicon Solution Inc (ISSI); PartNumber: IS62LV256AL-45TL; Density: 256K; Organization: 32K x 8; Packing: Tray / Tube; Speed (ns): 45; DatasheetVersion: Rev. C; PackageVersion: Rev. F, 09/2009; PackageReference: TSOP-1-28; PackageDescription: 28-Pin 8 x 13.4 mm TSOP-1, Pitch 0.55 mm; RoHS: Pb-Free; Mounting Technology: Surface Mount; Code_JEDEC: MO- 183; ComponentLink1Description: Manufacturer URL; ComponentLink1URL: http://www.issi.com/US/index.shtml; ComponentLink2Description: Datasheet; ComponentLink2URL: http://www.issi.com/WW/pdf/62-65LV256AL.pdf; ComponentLink3Description: Package Specification; ComponentLink3URL: http://www.issi.com/WW/pdf/62-65C256AL.pdf
footprint ISSI-TSOP-1-28-8000X13400DE_N (SOP, 28-Leads, Body 11.9x8.1mm, Pitch 0.55mm, IPC Medium Density)
pins: 1 A14 (in) "Address Input", 2 A12 (in) "Address Input", 3 A7 (in) "Address Input", 4 A6 (in) "Address Input", 5 A5 (in) "Address Input", 6 A4 (in) "Address Input", 7 A3 (in) "Address Input", 8 A2 (in) "Address Input", 9 A1 (in) "Address Input", 10 A0 (in) "Address Input", 11 I/O0 (io) "Input/Output", 12 I/O1 (io) "Input/Output", 13 I/O2 (io) "Input/Output", 14 GND (power) "Ground", 15 I/O3 (io) "Input/Output", 16 I/O4 (io) "Input/Output", 17 I/O5 (io) "Input/Output", 18 I/O6 (io) "Input/Output", 19 I/O7 (io) "Input/Output", 20 ~{CE} (in) "Chip Select Input", 21 A10 (in) "Address Input", 22 ~{OE} (in) "Output Enable Input", 23 A11 (in) "Address Input", 24 A9 (in) "Address Input", 25 A8 (in) "Address Input", 26 A13 (in) "Address Input", 27 ~{WE} (in) "Write Enable Input", 28 VDD (power) "Power"

## IS62LV256AL-45TL-TR
designator U?
256 K Low Voltage CMOS SRAM, 32 K x 8, 0 to 70 degC, 28-Pin SOP (TSOP-1-28), Pb-Free; Manufacturer: Integrated Silicon Solution Inc (ISSI); PartNumber: IS62LV256AL-45TL-TR; Density: 256K; Organization: 32K x 8; Packing: Tape & Reel; Speed (ns): 45; DatasheetVersion: Rev. C; PackageVersion: Rev. F, 09/2009; PackageReference: TSOP-1-28; PackageDescription: 28-Pin 8 x 13.4 mm TSOP-1, Pitch 0.55 mm; RoHS: Pb-Free; Mounting Technology: Surface Mount; Code_JEDEC: MO- 183; ComponentLink1Description: Manufacturer URL; ComponentLink1URL: http://www.issi.com/US/index.shtml; ComponentLink2Description: Datasheet; ComponentLink2URL: http://www.issi.com/WW/pdf/62-65LV256AL.pdf; ComponentLink3Description: Package Specification; ComponentLink3URL: http://www.issi.com/WW/pdf/62-65C256AL.pdf
footprint ISSI-TSOP-1-28-8000X13400DE_N (SOP, 28-Leads, Body 11.9x8.1mm, Pitch 0.55mm, IPC Medium Density)
pins: 1 A14 (in) "Address Input", 2 A12 (in) "Address Input", 3 A7 (in) "Address Input", 4 A6 (in) "Address Input", 5 A5 (in) "Address Input", 6 A4 (in) "Address Input", 7 A3 (in) "Address Input", 8 A2 (in) "Address Input", 9 A1 (in) "Address Input", 10 A0 (in) "Address Input", 11 I/O0 (io) "Input/Output", 12 I/O1 (io) "Input/Output", 13 I/O2 (io) "Input/Output", 14 GND (power) "Ground", 15 I/O3 (io) "Input/Output", 16 I/O4 (io) "Input/Output", 17 I/O5 (io) "Input/Output", 18 I/O6 (io) "Input/Output", 19 I/O7 (io) "Input/Output", 20 ~{CE} (in) "Chip Select Input", 21 A10 (in) "Address Input", 22 ~{OE} (in) "Output Enable Input", 23 A11 (in) "Address Input", 24 A9 (in) "Address Input", 25 A8 (in) "Address Input", 26 A13 (in) "Address Input", 27 ~{WE} (in) "Write Enable Input", 28 VDD (power) "Power"

## IS62LV256AL-45TLI
designator U?
256 K Low Voltage CMOS SRAM, 32 K x 8, -40 to 85 degC, 28-Pin SOP (TSOP-1-28), Pb-Free; Manufacturer: Integrated Silicon Solution Inc (ISSI); PartNumber: IS62LV256AL-45TLI; Density: 256K; Organization: 32K x 8; Packing: Tray / Tube; Speed (ns): 45; DatasheetVersion: Rev. C; PackageVersion: Rev. F, 09/2009; PackageReference: TSOP-1-28; PackageDescription: 28-Pin 8 x 13.4 mm TSOP-1, Pitch 0.55 mm; Supplier 1: Digi-Key; Supplier Part Number 1: 706-1044-ND; Supplier 2: Farnell; Supplier Part Number 2: 2101285; Supplier 3: Newark; Supplier Part Number 3: 43M5425; Supplier 4: Mouser; Supplier Part Number 4: 870IS62LV256AL45TLI; RoHS: Pb-Free; Mounting Technology: Surface Mount; Code_JEDEC: MO- 183; ComponentLink1Description: Manufacturer URL; ComponentLink1URL: http://www.issi.com/US/index.shtml; ComponentLink2Description: Datasheet; ComponentLink2URL: http://www.issi.com/WW/pdf/62-65LV256AL.pdf; ComponentLink3Description: Package Specification; ComponentLink3URL: http://www.issi.com/WW/pdf/62-65C256AL.pdf
footprint ISSI-TSOP-1-28-8000X13400DE_N (SOP, 28-Leads, Body 11.9x8.1mm, Pitch 0.55mm, IPC Medium Density)
pins: 1 A14 (in) "Address Input", 2 A12 (in) "Address Input", 3 A7 (in) "Address Input", 4 A6 (in) "Address Input", 5 A5 (in) "Address Input", 6 A4 (in) "Address Input", 7 A3 (in) "Address Input", 8 A2 (in) "Address Input", 9 A1 (in) "Address Input", 10 A0 (in) "Address Input", 11 I/O0 (io) "Input/Output", 12 I/O1 (io) "Input/Output", 13 I/O2 (io) "Input/Output", 14 GND (power) "Ground", 15 I/O3 (io) "Input/Output", 16 I/O4 (io) "Input/Output", 17 I/O5 (io) "Input/Output", 18 I/O6 (io) "Input/Output", 19 I/O7 (io) "Input/Output", 20 ~{CE} (in) "Chip Select Input", 21 A10 (in) "Address Input", 22 ~{OE} (in) "Output Enable Input", 23 A11 (in) "Address Input", 24 A9 (in) "Address Input", 25 A8 (in) "Address Input", 26 A13 (in) "Address Input", 27 ~{WE} (in) "Write Enable Input", 28 VDD (power) "Power"

## IS62LV256AL-45TLI-TR
designator U?
256 K Low Voltage CMOS SRAM, 32 K x 8, -40 to 85 degC, 28-Pin SOP (TSOP-1-28), Pb-Free; Manufacturer: Integrated Silicon Solution Inc (ISSI); PartNumber: IS62LV256AL-45TLI-TR; Density: 256K; Organization: 32K x 8; Packing: Tape & Reel; Speed (ns): 45; DatasheetVersion: Rev. C; PackageVersion: Rev. F, 09/2009; PackageReference: TSOP-1-28; PackageDescription: 28-Pin 8 x 13.4 mm TSOP-1, Pitch 0.55 mm; Supplier 1: Digi-Key; Supplier Part Number 1: IS62LV256AL-45TLI-TR-ND; Supplier 2: Mouser; Supplier Part Number 2: 870IS62LV256AL45TLIT; RoHS: Pb-Free; Mounting Technology: Surface Mount; Code_JEDEC: MO- 183; ComponentLink1Description: Manufacturer URL; ComponentLink1URL: http://www.issi.com/US/index.shtml; ComponentLink2Description: Datasheet; ComponentLink2URL: http://www.issi.com/WW/pdf/62-65LV256AL.pdf; ComponentLink3Description: Package Specification; ComponentLink3URL: http://www.issi.com/WW/pdf/62-65C256AL.pdf
footprint ISSI-TSOP-1-28-8000X13400DE_N (SOP, 28-Leads, Body 11.9x8.1mm, Pitch 0.55mm, IPC Medium Density)
pins: 1 A14 (in) "Address Input", 2 A12 (in) "Address Input", 3 A7 (in) "Address Input", 4 A6 (in) "Address Input", 5 A5 (in) "Address Input", 6 A4 (in) "Address Input", 7 A3 (in) "Address Input", 8 A2 (in) "Address Input", 9 A1 (in) "Address Input", 10 A0 (in) "Address Input", 11 I/O0 (io) "Input/Output", 12 I/O1 (io) "Input/Output", 13 I/O2 (io) "Input/Output", 14 GND (power) "Ground", 15 I/O3 (io) "Input/Output", 16 I/O4 (io) "Input/Output", 17 I/O5 (io) "Input/Output", 18 I/O6 (io) "Input/Output", 19 I/O7 (io) "Input/Output", 20 ~{CE} (in) "Chip Select Input", 21 A10 (in) "Address Input", 22 ~{OE} (in) "Output Enable Input", 23 A11 (in) "Address Input", 24 A9 (in) "Address Input", 25 A8 (in) "Address Input", 26 A13 (in) "Address Input", 27 ~{WE} (in) "Write Enable Input", 28 VDD (power) "Power"

## IS62LV256AL-45ULI
designator U?
256 K Low Voltage CMOS SRAM, 32 K x 8, -40 to 85 degC, 28-Pin SOP (SOP-28), Pb-Free; Manufacturer: Integrated Silicon Solution Inc (ISSI); PartNumber: IS62LV256AL-45ULI; Density: 256K; Organization: 32K x 8; Packing: Tray / Tube; Speed (ns): 45; DatasheetVersion: Rev. C; PackageVersion: Rev. C, 08/2009; PackageReference: SOP-28; PackageDescription: 28-Pin 330 mil SOP, Body 18.16 x 8.40, Pitch 1.27 mm; Supplier 1: Digi-Key; Supplier Part Number 1: 706-1110-5-ND; Supplier 2: Mouser; Supplier Part Number 2: 870-IS62LV256AL45ULI; RoHS: Pb-Free; Mounting Technology: Surface Mount; ComponentLink1Description: Manufacturer URL; ComponentLink1URL: http://www.issi.com/US/index.shtml; ComponentLink2Description: Datasheet; ComponentLink2URL: http://www.issi.com/WW/pdf/62-65LV256AL.pdf; ComponentLink3Description: Package Specification; ComponentLink3URL: http://www.issi.com/WW/pdf/62-65C256AL.pdf
footprint ISSI-SOP-28_N (SOP, 28-Leads, Body 18.66x8.9mm, Pitch 1.27mm, IPC Medium Density)
pins: 1 A14 (in) "Address Input", 2 A12 (in) "Address Input", 3 A7 (in) "Address Input", 4 A6 (in) "Address Input", 5 A5 (in) "Address Input", 6 A4 (in) "Address Input", 7 A3 (in) "Address Input", 8 A2 (in) "Address Input", 9 A1 (in) "Address Input", 10 A0 (in) "Address Input", 11 I/O0 (io) "Input/Output", 12 I/O1 (io) "Input/Output", 13 I/O2 (io) "Input/Output", 14 GND (power) "Ground", 15 I/O3 (io) "Input/Output", 16 I/O4 (io) "Input/Output", 17 I/O5 (io) "Input/Output", 18 I/O6 (io) "Input/Output", 19 I/O7 (io) "Input/Output", 20 ~{CE} (in) "Chip Enable Input", 21 A10 (in) "Address Input", 22 ~{OE} (in) "Output Enable Input", 23 A11 (in) "Address Input", 24 A9 (in) "Address Input", 25 A8 (in) "Address Input", 26 A13 (in) "Address Input", 27 ~{WE} (in) "Write Enable Input", 28 VDD (power) "Power"

## IS62LV256AL-45ULI-TR
designator U?
256 K Low Voltage CMOS SRAM, 32 K x 8, -40 to 85 degC, 28-Pin SOP (SOP-28), Pb-Free; Manufacturer: Integrated Silicon Solution Inc (ISSI); PartNumber: IS62LV256AL-45ULI-TR; Density: 256K; Organization: 32K x 8; Packing: Tape & Reel; Speed (ns): 45; DatasheetVersion: Rev. C; PackageVersion: Rev. C, 08/2009; PackageReference: SOP-28; PackageDescription: 28-Pin 330 mil SOP, Body 18.16 x 8.40, Pitch 1.27 mm; Supplier 1: Digi-Key; Supplier Part Number 1: IS62LV256AL-45ULI-TR-ND; Supplier 2: Mouser; Supplier Part Number 2: 870-62LV256AL45ULITR; RoHS: Pb-Free; Mounting Technology: Surface Mount; ComponentLink1Description: Manufacturer URL; ComponentLink1URL: http://www.issi.com/US/index.shtml; ComponentLink2Description: Datasheet; ComponentLink2URL: http://www.issi.com/WW/pdf/62-65LV256AL.pdf; ComponentLink3Description: Package Specification; ComponentLink3URL: http://www.issi.com/WW/pdf/62-65C256AL.pdf
footprint ISSI-SOP-28_N (SOP, 28-Leads, Body 18.66x8.9mm, Pitch 1.27mm, IPC Medium Density)
pins: 1 A14 (in) "Address Input", 2 A12 (in) "Address Input", 3 A7 (in) "Address Input", 4 A6 (in) "Address Input", 5 A5 (in) "Address Input", 6 A4 (in) "Address Input", 7 A3 (in) "Address Input", 8 A2 (in) "Address Input", 9 A1 (in) "Address Input", 10 A0 (in) "Address Input", 11 I/O0 (io) "Input/Output", 12 I/O1 (io) "Input/Output", 13 I/O2 (io) "Input/Output", 14 GND (power) "Ground", 15 I/O3 (io) "Input/Output", 16 I/O4 (io) "Input/Output", 17 I/O5 (io) "Input/Output", 18 I/O6 (io) "Input/Output", 19 I/O7 (io) "Input/Output", 20 ~{CE} (in) "Chip Enable Input", 21 A10 (in) "Address Input", 22 ~{OE} (in) "Output Enable Input", 23 A11 (in) "Address Input", 24 A9 (in) "Address Input", 25 A8 (in) "Address Input", 26 A13 (in) "Address Input", 27 ~{WE} (in) "Write Enable Input", 28 VDD (power) "Power"

## IS62WV1288DALL-55BI
designator U?
1 M Low Voltage, Ultra Low Power CMOS SRAM, 128 K x 8, -40 to 85 degC, 36-Pin BGA (TF-BGA-36); Manufacturer: Integrated Silicon Solution Inc (ISSI); PartNumber: IS62WV1288DALL-55BI; Density: 1M; Organization: 128K x 8; Packing: Tray / Tube; Speed (ns): 55; DatasheetVersion: Rev. B; PackageVersion: Rev. E, 08/2008; PackageReference: TF-BGA-36; PackageDescription: 36-Pin 6 x 8 mm TF-BGA, Pitch 0.75 mm; Mounting Technology: Surface Mount; Code_JEDEC: MO-207; ComponentLink1Description: Manufacturer URL; ComponentLink1URL: http://www.issi.com/US/index.shtml; ComponentLink2Description: Datasheet; ComponentLink2URL: http://www.issi.com/WW/pdf/62-65WV1288DALL-BLL.pdf; ComponentLink3Description: Package Specification; ComponentLink3URL: http://www.issi.com/WW/pdf/62-65WV2568DALL_BLL.pdf
footprint ISSI-TF-BGA-36-6000x8000DE (BGA, 36-Balls, Body 8x6mm, Pitch 0.75mm)
pins: A1 A0 (in) "Address Inputs", A2 A1 (in) "Address Inputs", A3 CS2 (in) "Chip Enable 2 Input", A4 A3 (in) "Address Inputs", A5 A6 (in) "Address Inputs", A6 A8 (in) "Address Inputs", B1 I/O4 (io) "Bidirectional Ports", B2 A2 (in) "Address Inputs", B3 ~{WE} (in) "Write Enable Input", B4 A4 (in) "Address Inputs", B5 A7 (in) "Address Inputs", B6 I/O0 (io) "Bidirectional Ports", C1 I/O5 (io) "Bidirectional Ports", C3 NC "No Connection", C4 A5 (in) "Address Inputs", C6 I/O1 (io) "Bidirectional Ports", D1 GND (power) "Ground", D6 VDD (power) "Power", E1 VDD (power) "Power", E6 GND (power) "Ground", F1 I/O6 (io) "Bidirectional Ports", F3 NC "No Connection", F4 NC "No Connection", F6 I/O2 (io) "Bidirectional Ports", G1 I/O7 (io) "Bidirectional Ports", G2 ~{OE} (in) "Output Enable Input", G3 ~{CS1} (in) "Chip Enable 1 Input", G4 A16 (in) "Address Inputs", G5 A15 (in) "Address Inputs", G6 I/O3 (io) "Bidirectional Ports", H1 A9 (in) "Address Inputs", H2 A10 (in) "Address Inputs", H3 A11 (in) "Address Inputs", H4 A12 (in) "Address Inputs", H5 A13 (in) "Address Inputs", H6 A14 (in) "Address Inputs"

## IS62WV1288DALL-55BI-TR
designator U?
1 M Low Voltage, Ultra Low Power CMOS SRAM, 128 K x 8, -40 to 85 degC, 36-Pin BGA (TF-BGA-36); Manufacturer: Integrated Silicon Solution Inc (ISSI); PartNumber: IS62WV1288DALL-55BI-TR; Density: 1M; Organization: 128K x 8; Packing: Tape & Reel; Speed (ns): 55; DatasheetVersion: Rev. B; PackageVersion: Rev. E, 08/2008; PackageReference: TF-BGA-36; PackageDescription: 36-Pin 6 x 8 mm TF-BGA, Pitch 0.75 mm; Mounting Technology: Surface Mount; Code_JEDEC: MO-207; ComponentLink1Description: Manufacturer URL; ComponentLink1URL: http://www.issi.com/US/index.shtml; ComponentLink2Description: Datasheet; ComponentLink2URL: http://www.issi.com/WW/pdf/62-65WV1288DALL-BLL.pdf; ComponentLink3Description: Package Specification; ComponentLink3URL: http://www.issi.com/WW/pdf/62-65WV2568DALL_BLL.pdf
footprint ISSI-TF-BGA-36-6000x8000DE (BGA, 36-Balls, Body 8x6mm, Pitch 0.75mm)
pins: A1 A0 (in) "Address Inputs", A2 A1 (in) "Address Inputs", A3 CS2 (in) "Chip Enable 2 Input", A4 A3 (in) "Address Inputs", A5 A6 (in) "Address Inputs", A6 A8 (in) "Address Inputs", B1 I/O4 (io) "Bidirectional Ports", B2 A2 (in) "Address Inputs", B3 ~{WE} (in) "Write Enable Input", B4 A4 (in) "Address Inputs", B5 A7 (in) "Address Inputs", B6 I/O0 (io) "Bidirectional Ports", C1 I/O5 (io) "Bidirectional Ports", C3 NC "No Connection", C4 A5 (in) "Address Inputs", C6 I/O1 (io) "Bidirectional Ports", D1 GND (power) "Ground", D6 VDD (power) "Power", E1 VDD (power) "Power", E6 GND (power) "Ground", F1 I/O6 (io) "Bidirectional Ports", F3 NC "No Connection", F4 NC "No Connection", F6 I/O2 (io) "Bidirectional Ports", G1 I/O7 (io) "Bidirectional Ports", G2 ~{OE} (in) "Output Enable Input", G3 ~{CS1} (in) "Chip Enable 1 Input", G4 A16 (in) "Address Inputs", G5 A15 (in) "Address Inputs", G6 I/O3 (io) "Bidirectional Ports", H1 A9 (in) "Address Inputs", H2 A10 (in) "Address Inputs", H3 A11 (in) "Address Inputs", H4 A12 (in) "Address Inputs", H5 A13 (in) "Address Inputs", H6 A14 (in) "Address Inputs"

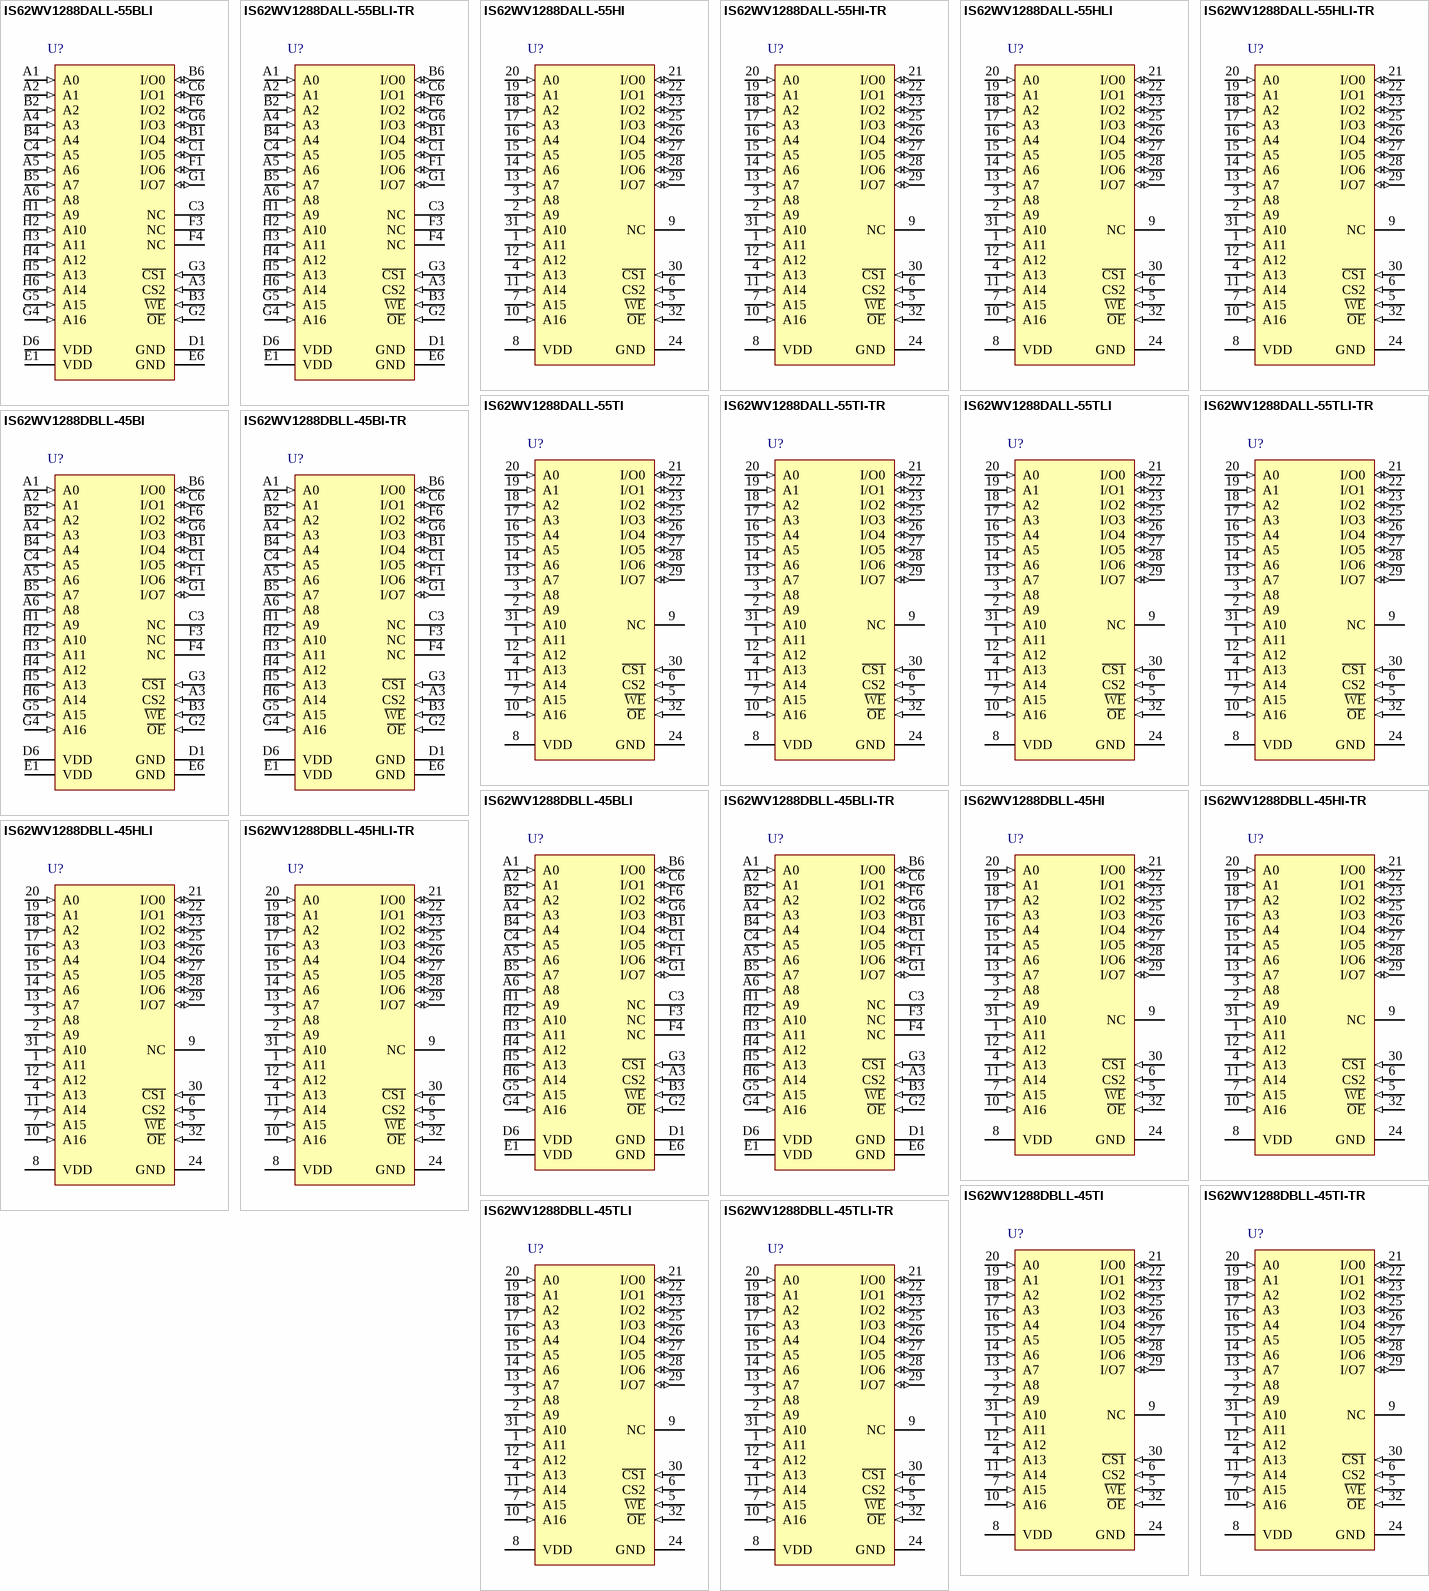
[diagram p1: symbols IS62WV1288DALL-55BLI to IS62WV1288DBLL-45TLI-TR]

## IS62WV1288DALL-55BLI
designator U?
1 M Low Voltage, Ultra Low Power CMOS SRAM, 128 K x 8, -40 to 85 degC, 36-Pin BGA (TF-BGA-36), Pb-Free; Manufacturer: Integrated Silicon Solution Inc (ISSI); PartNumber: IS62WV1288DALL-55BLI; Density: 1M; Organization: 128K x 8; Packing: Tray / Tube; Speed (ns): 55; DatasheetVersion: Rev. B; PackageVersion: Rev. E, 08/2008; PackageReference: TF-BGA-36; PackageDescription: 36-Pin 6 x 8 mm TF-BGA, Pitch 0.75 mm; RoHS: Pb-Free; Mounting Technology: Surface Mount; Code_JEDEC: MO-207; ComponentLink1Description: Manufacturer URL; ComponentLink1URL: http://www.issi.com/US/index.shtml; ComponentLink2Description: Datasheet; ComponentLink2URL: http://www.issi.com/WW/pdf/62-65WV1288DALL-BLL.pdf; ComponentLink3Description: Package Specification; ComponentLink3URL: http://www.issi.com/WW/pdf/62-65WV2568DALL_BLL.pdf
footprint ISSI-TF-BGA-36-6000x8000DE (BGA, 36-Balls, Body 8x6mm, Pitch 0.75mm)
pins: A1 A0 (in) "Address Inputs", A2 A1 (in) "Address Inputs", A3 CS2 (in) "Chip Enable 2 Input", A4 A3 (in) "Address Inputs", A5 A6 (in) "Address Inputs", A6 A8 (in) "Address Inputs", B1 I/O4 (io) "Bidirectional Ports", B2 A2 (in) "Address Inputs", B3 ~{WE} (in) "Write Enable Input", B4 A4 (in) "Address Inputs", B5 A7 (in) "Address Inputs", B6 I/O0 (io) "Bidirectional Ports", C1 I/O5 (io) "Bidirectional Ports", C3 NC "No Connection", C4 A5 (in) "Address Inputs", C6 I/O1 (io) "Bidirectional Ports", D1 GND (power) "Ground", D6 VDD (power) "Power", E1 VDD (power) "Power", E6 GND (power) "Ground", F1 I/O6 (io) "Bidirectional Ports", F3 NC "No Connection", F4 NC "No Connection", F6 I/O2 (io) "Bidirectional Ports", G1 I/O7 (io) "Bidirectional Ports", G2 ~{OE} (in) "Output Enable Input", G3 ~{CS1} (in) "Chip Enable 1 Input", G4 A16 (in) "Address Inputs", G5 A15 (in) "Address Inputs", G6 I/O3 (io) "Bidirectional Ports", H1 A9 (in) "Address Inputs", H2 A10 (in) "Address Inputs", H3 A11 (in) "Address Inputs", H4 A12 (in) "Address Inputs", H5 A13 (in) "Address Inputs", H6 A14 (in) "Address Inputs"

## IS62WV1288DALL-55BLI-TR
designator U?
1 M Low Voltage, Ultra Low Power CMOS SRAM, 128 K x 8, -40 to 85 degC, 36-Pin BGA (TF-BGA-36), Pb-Free; Manufacturer: Integrated Silicon Solution Inc (ISSI); PartNumber: IS62WV1288DALL-55BLI-TR; Density: 1M; Organization: 128K x 8; Packing: Tape & Reel; Speed (ns): 55; DatasheetVersion: Rev. B; PackageVersion: Rev. E, 08/2008; PackageReference: TF-BGA-36; PackageDescription: 36-Pin 6 x 8 mm TF-BGA, Pitch 0.75 mm; RoHS: Pb-Free; Mounting Technology: Surface Mount; Code_JEDEC: MO-207; ComponentLink1Description: Manufacturer URL; ComponentLink1URL: http://www.issi.com/US/index.shtml; ComponentLink2Description: Datasheet; ComponentLink2URL: http://www.issi.com/WW/pdf/62-65WV1288DALL-BLL.pdf; ComponentLink3Description: Package Specification; ComponentLink3URL: http://www.issi.com/WW/pdf/62-65WV2568DALL_BLL.pdf
footprint ISSI-TF-BGA-36-6000x8000DE (BGA, 36-Balls, Body 8x6mm, Pitch 0.75mm)
pins: A1 A0 (in) "Address Inputs", A2 A1 (in) "Address Inputs", A3 CS2 (in) "Chip Enable 2 Input", A4 A3 (in) "Address Inputs", A5 A6 (in) "Address Inputs", A6 A8 (in) "Address Inputs", B1 I/O4 (io) "Bidirectional Ports", B2 A2 (in) "Address Inputs", B3 ~{WE} (in) "Write Enable Input", B4 A4 (in) "Address Inputs", B5 A7 (in) "Address Inputs", B6 I/O0 (io) "Bidirectional Ports", C1 I/O5 (io) "Bidirectional Ports", C3 NC "No Connection", C4 A5 (in) "Address Inputs", C6 I/O1 (io) "Bidirectional Ports", D1 GND (power) "Ground", D6 VDD (power) "Power", E1 VDD (power) "Power", E6 GND (power) "Ground", F1 I/O6 (io) "Bidirectional Ports", F3 NC "No Connection", F4 NC "No Connection", F6 I/O2 (io) "Bidirectional Ports", G1 I/O7 (io) "Bidirectional Ports", G2 ~{OE} (in) "Output Enable Input", G3 ~{CS1} (in) "Chip Enable 1 Input", G4 A16 (in) "Address Inputs", G5 A15 (in) "Address Inputs", G6 I/O3 (io) "Bidirectional Ports", H1 A9 (in) "Address Inputs", H2 A10 (in) "Address Inputs", H3 A11 (in) "Address Inputs", H4 A12 (in) "Address Inputs", H5 A13 (in) "Address Inputs", H6 A14 (in) "Address Inputs"

## IS62WV1288DALL-55HI
designator U?
1 M Low Voltage, Ultra Low Power CMOS SRAM, 128 K x 8, -40 to 85 degC, 32-Pin SOP (TSOP-1-32); Manufacturer: Integrated Silicon Solution Inc (ISSI); PartNumber: IS62WV1288DALL-55HI; Density: 1M; Organization: 128K x 8; Packing: Tray / Tube; Speed (ns): 55; DatasheetVersion: Rev. B; PackageVersion: Rev. E, 06/2006; PackageReference: TSOP-1-32; PackageDescription: 32-Pin TSOP-1, Body 8 x 20 mm, Pitch 0.50 mm; Mounting Technology: Surface Mount; ComponentLink1Description: Manufacturer URL; ComponentLink1URL: http://www.issi.com/US/index.shtml; ComponentLink2Description: Datasheet; ComponentLink2URL: http://www.issi.com/WW/pdf/62-65WV1288DALL-BLL.pdf; ComponentLink3Description: Package Specification; ComponentLink3URL: http://www.issi.com/WW/pdf/61-64C1024AL.pdf
footprint ISSI-TSOP-1-32-8000x20000DE_N (SOP, 32-Leads, Body 18.5x8.2mm, Pitch 0.5mm, IPC Medium Density)
pins: 1 A11 (in) "Address Input", 2 A9 (in) "Address Input", 3 A8 (in) "Address Input", 4 A13 (in) "Address Input", 5 ~{WE} (in) "Write Enable Input", 6 CS2 (in) "Chip Enable 2 Input", 7 A15 (in) "Address Input", 8 VDD (power) "Power", 9 NC "No Connection", 10 A16 (in) "Address Input", 11 A14 (in) "Address Input", 12 A12 (in) "Address Input", 13 A7 (in) "Address Input", 14 A6 (in) "Address Input", 15 A5 (in) "Address Input", 16 A4 (in) "Address Input", 17 A3 (in) "Address Input", 18 A2 (in) "Address Input", 19 A1 (in) "Address Input", 20 A0 (in) "Address Input", 21 I/O0 (io) "Input/Output", 22 I/O1 (io) "Input/Output", 23 I/O2 (io) "Input/Output", 24 GND (power) "Ground", 25 I/O3 (io) "Input/Output", 26 I/O4 (io) "Input/Output", 27 I/O5 (io) "Input/Output", 28 I/O6 (io) "Input/Output", 29 I/O7 (io) "Input/Output", 30 ~{CS1} (in) "Chip Enable 1 Input", 31 A10 (in) "Address Input", 32 ~{OE} (in) "Output Enable Input"